# Altium schematic symbol library Capacitors.SchLib: 199 symbols
Pins are listed as number, name and electrical type; pins without a type are passive.

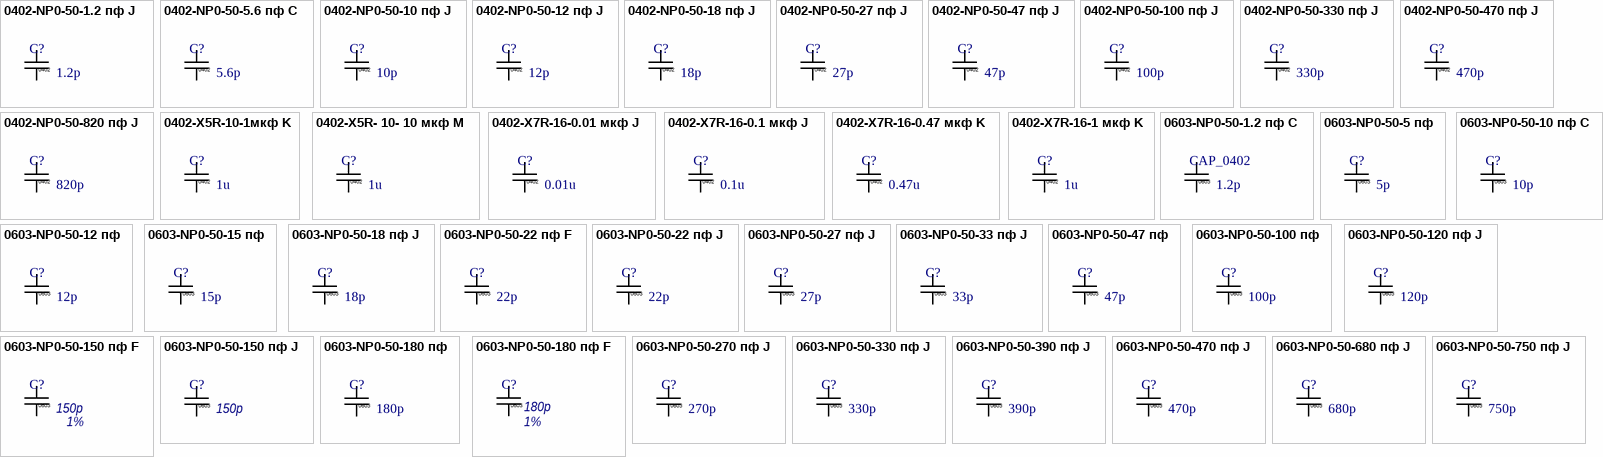
[diagram p0: symbols 0402-NP0-50-1.2 пф J to 0603-NP0-50-750 пф J]

## 0402-NP0-50-1.2 пф J
designator C?  Cap: 1.2p  Foot: 0402  (hidden comment: 0402-NP0-50-1.2 пф J)
Конденсатор Чип Керамический; Voltage: 50V
footprint CAP_0402 (Chip Capacitor, 2-Leads, Body 1,00x0,50mm, IPC Medium Density)
pins: 1, 2

## 0402-NP0-50-5.6 пф C
designator C?  Cap: 5.6p  Foot: 0402  (hidden comment: 0402-NP0-50-5.6 пф C)
Конденсатор Чип Керамический; Voltage: 50V
footprint CAP_0402 (Chip Capacitor, 2-Leads, Body 1,00x0,50mm, IPC Medium Density)
pins: 1, 2

## 0402-NP0-50-10 пф J
designator C?  Cap: 10p  Foot: 0402  (hidden comment: 0402-NP0-50-10 пф J)
Конденсатор Чип Керамический; Voltage: 50V
footprint CAP_0402 (Chip Capacitor, 2-Leads, Body 1,00x0,50mm, IPC Medium Density)
pins: 1, 2

## 0402-NP0-50-12 пф J
designator C?  Cap: 12p  Foot: 0402  (hidden comment: 0402-NP0-50-12 пф J)
Конденсатор Чип Керамический; Voltage: 50V
footprint CAP_0402 (Chip Capacitor, 2-Leads, Body 1,00x0,50mm, IPC Medium Density)
pins: 1, 2

## 0402-NP0-50-18 пф J
designator C?  Cap: 18p  Foot: 0402  (hidden comment: 0402-NP0-50-18 пф J)
Конденсатор Чип Керамический; Voltage: 50V
footprint CAP_0402 (Chip Capacitor, 2-Leads, Body 1,00x0,50mm, IPC Medium Density)
pins: 1, 2

## 0402-NP0-50-27 пф J
designator C?  Cap: 27p  Foot: 0402  (hidden comment: 0402-NP0-50-27 пф J)
Конденсатор Чип Керамический; Voltage: 50V
footprint CAP_0402 (Chip Capacitor, 2-Leads, Body 1,00x0,50mm, IPC Medium Density)
pins: 1, 2

## 0402-NP0-50-47 пф J
designator C?  Cap: 47p  Foot: 0402  (hidden comment: 0402-NP0-50-47 пф J)
Конденсатор Чип Керамический; Voltage: 50V
footprint CAP_0402 (Chip Capacitor, 2-Leads, Body 1,00x0,50mm, IPC Medium Density)
pins: 1, 2

## 0402-NP0-50-100 пф J
designator C?  Cap: 100p  Foot: 0402  (hidden comment: 0402-NP0-50-100 пф J)
Конденсатор Чип Керамический; Voltage: 50V
footprint CAP_0402 (Chip Capacitor, 2-Leads, Body 1,00x0,50mm, IPC Medium Density)
pins: 1, 2

## 0402-NP0-50-330 пф J
designator C?  Cap: 330p  Foot: 0402  (hidden comment: 0402-NP0-50-330 пф J)
Конденсатор Чип Керамический; Voltage: 50V
footprint CAP_0402 (Chip Capacitor, 2-Leads, Body 1,00x0,50mm, IPC Medium Density)
pins: 1, 2

## 0402-NP0-50-470 пф J
designator C?  Cap: 470p  Foot: 0402  (hidden comment: 0402-NP0-50-470 пф J)
Конденсатор Чип Керамический; Voltage: 50V
footprint CAP_0402 (Chip Capacitor, 2-Leads, Body 1,00x0,50mm, IPC Medium Density)
pins: 1, 2

## 0402-NP0-50-820 пф J
designator C?  Cap: 820p  Foot: 0402  (hidden comment: 0402-NP0-50-820 пф J)
Конденсатор Чип Керамический; Voltage: 50V
footprint CAP_0402 (Chip Capacitor, 2-Leads, Body 1,00x0,50mm, IPC Medium Density)
pins: 1, 2

## 0402-X5R-10-1мкф K
designator C?  Cap: 1u  Foot: 0402  (hidden comment: 0402-X5R-10-1мкф K)
Конденсатор Чип Керамический; Voltage: 10V
footprint CAP_0402 (Chip Capacitor, 2-Leads, Body 1,00x0,50mm, IPC Medium Density)
pins: 1, 2

## 0402-X5R- 10- 10 мкф M
designator C?  Cap: 1u  Foot: 0402  (hidden comment: 0402-X5R- 10- 10 мкф M)
Конденсатор Чип Керамический; Voltage: 10V
footprint CAP_0402 (Chip Capacitor, 2-Leads, Body 1,00x0,50mm, IPC Medium Density)
pins: 1, 2

## 0402-X7R-16-0.01 мкф J
designator C?  Cap: 0.01u  Foot: 0402  (hidden comment: 0402-X7R-16-0.01 мкф J)
Конденсатор Чип Керамический; Voltage: 16V
footprint CAP_0402 (Chip Capacitor, 2-Leads, Body 1,00x0,50mm, IPC Medium Density)
pins: 1, 2

## 0402-X7R-16-0.1 мкф J
designator C?  Cap: 0.1u  Foot: 0402  (hidden comment: 0402-X7R-16-0.1 мкф J)
Конденсатор Чип Керамический; Voltage: 16V
footprint CAP_0402 (Chip Capacitor, 2-Leads, Body 1,00x0,50mm, IPC Medium Density)
pins: 1, 2

## 0402-X7R-16-0.47 мкф K
designator C?  Cap: 0.47u  Foot: 0402  (hidden comment: 0402-X7R-16-0.47 мкф K)
Конденсатор Чип Керамический; Voltage: 16V
footprint CAP_0402 (Chip Capacitor, 2-Leads, Body 1,00x0,50mm, IPC Medium Density)
pins: 1, 2

## 0402-X7R-16-1 мкф K
designator C?  Cap: 1u  Foot: 0402  (hidden comment: 0402-X7R-16-1 мкф K)
Конденсатор Чип Керамический; Voltage: 16V
footprint CAP_0402 (Chip Capacitor, 2-Leads, Body 1,00x0,50mm, IPC Medium Density)
pins: 1, 2

## 0603-NP0-50-1.2 пф C
designator CAP_0402  Cap: 1.2p  Foot: 0603  (hidden comment: 0603-NP0-50-1.2 пф C)
Конденсатор Чип Керамический; Voltage: 50V; Tolerance: 0.5%
footprint CAP_0603 (Chip Capacitor, 2-Leads, Body 1,60x0,80mm, IPC Medium Density)
pins: 1, 2

## 0603-NP0-50-5 пф
designator C?  Cap: 5p  Foot: 0603  (hidden comment: 0603-NP0-50-5 пф)
Конденсатор Чип Керамический; Voltage: 50V
footprint CAP_0603 (Chip Capacitor, 2-Leads, Body 1,60x0,80mm, IPC Medium Density)
pins: 1, 2

## 0603-NP0-50-10 пф C
designator C?  Cap: 10p  Foot: 0603  (hidden comment: 0603-NP0-50-10 пф C)
Конденсатор Чип Керамический; Voltage: 50V; Tolerance: 0.5%
footprint CAP_0603 (Chip Capacitor, 2-Leads, Body 1,60x0,80mm, IPC Medium Density)
pins: 1, 2

## 0603-NP0-50-12 пф
designator C?  Cap: 12p  Foot: 0603  (hidden comment: 0603-NP0-50-12 пф)
Конденсатор Чип Керамический; Voltage: 50V
footprint CAP_0603 (Chip Capacitor, 2-Leads, Body 1,60x0,80mm, IPC Medium Density)
pins: 1, 2

## 0603-NP0-50-15 пф
designator C?  Cap: 15p  Foot: 0603  (hidden comment: 0603-NP0-50-15 пф)
Конденсатор Чип Керамический; Voltage: 50V
footprint CAP_0603 (Chip Capacitor, 2-Leads, Body 1,60x0,80mm, IPC Medium Density)
pins: 1, 2

## 0603-NP0-50-18 пф J
designator C?  Cap: 18p  Foot: 0603  (hidden comment: 0603-NP0-50-18 пф J)
Конденсатор Чип Керамический; Voltage: 50V
footprint CAP_0603 (Chip Capacitor, 2-Leads, Body 1,60x0,80mm, IPC Medium Density)
pins: 1, 2

## 0603-NP0-50-22 пф F
designator C?  Cap: 22p  Foot: 0603  (hidden comment: 0603-NP0-50-22 пф F)
Конденсатор Чип Керамический; Voltage: 50V; Tolerance: 1%
footprint CAP_0603 (Chip Capacitor, 2-Leads, Body 1,60x0,80mm, IPC Medium Density)
pins: 1, 2

## 0603-NP0-50-22 пф J
designator C?  Cap: 22p  Foot: 0603  (hidden comment: 0603-NP0-50-22 пф J)
Конденсатор Чип Керамический; Voltage: 50V
footprint CAP_0603 (Chip Capacitor, 2-Leads, Body 1,60x0,80mm, IPC Medium Density)
pins: 1, 2

## 0603-NP0-50-27 пф J
designator C?  Cap: 27p  Foot: 0603  (hidden comment: 0603-NP0-50-27 пф J)
Конденсатор Чип Керамический; Voltage: 50V
footprint CAP_0603 (Chip Capacitor, 2-Leads, Body 1,60x0,80mm, IPC Medium Density)
pins: 1, 2

## 0603-NP0-50-33 пф J
designator C?  Cap: 33p  Foot: 0603  (hidden comment: 0603-NP0-50-33 пф J)
Конденсатор Чип Керамический; Voltage: 50V
footprint CAP_0603 (Chip Capacitor, 2-Leads, Body 1,60x0,80mm, IPC Medium Density)
pins: 1, 2

## 0603-NP0-50-47 пф
designator C?  Cap: 47p  Foot: 0603  (hidden comment: 0603-NP0-50-47 пф)
Конденсатор Чип Керамический; Voltage: 50V
footprint CAP_0603 (Chip Capacitor, 2-Leads, Body 1,60x0,80mm, IPC Medium Density)
pins: 1, 2

## 0603-NP0-50-100 пф
designator C?  Cap: 100p  Foot: 0603  (hidden comment: 0603-NP0-50-100 пф)
Конденсатор Чип Керамический; Voltage: 50V; Price, $: 0.1
footprint CAP_0603 (Chip Capacitor, 2-Leads, Body 1,60x0,80mm, IPC Medium Density)
pins: 1, 2

## 0603-NP0-50-120 пф J
designator C?  Cap: 120p  Foot: 0603  (hidden comment: 0603-NP0-50-120 пф J)
Конденсатор Чип Керамический; Voltage: 50V
footprint CAP_0603 (Chip Capacitor, 2-Leads, Body 1,60x0,80mm, IPC Medium Density)
pins: 1, 2

## 0603-NP0-50-150 пф F
designator C?, comment Cap: 150p  Foot: 0603  Tolerance: 1%  (hidden comment: 0603-NP0-50-150пф F)
Конденсатор Чип Керамический; Voltage: 50V
footprint CAP_0603 (Chip Capacitor, 2-Leads, Body 1,60x0,80mm, IPC Medium Density)
pins: 1, 2

## 0603-NP0-50-150 пф J
designator C?, comment Cap: 150p  Foot: 0603  (hidden comment: 0603-NP0-50-150пф J)
Конденсатор Чип Керамический; Voltage: 50V; Tolerance: 5%
footprint CAP_0603 (Chip Capacitor, 2-Leads, Body 1,60x0,80mm, IPC Medium Density)
pins: 1, 2

## 0603-NP0-50-180 пф
designator C?, comment Cap: 180p  Foot: 0603  (hidden comment: 0603-NP0-50-180пф)
Конденсатор Чип Керамический; Voltage: 50V; Price, $: 0.1
footprint CAP_0603 (Chip Capacitor, 2-Leads, Body 1,60x0,80mm, IPC Medium Density)
pins: 1, 2

## 0603-NP0-50-180 пф F
designator C?, comment Cap: 180p  Foot: 0603  Tolerance: 1%  (hidden comment: 0603-NP0-50-180пф F)
Конденсатор Чип Керамический; Voltage: 50V
footprint CAP_0603 (Chip Capacitor, 2-Leads, Body 1,60x0,80mm, IPC Medium Density)
pins: 1, 2

## 0603-NP0-50-270 пф J
designator C?  Cap: 270p  Foot: 0603  (hidden comment: 0603-NP0-50-270 пф J)
Конденсатор Чип Керамический; Voltage: 50V; Price, $: 0.1
footprint CAP_0603 (Chip Capacitor, 2-Leads, Body 1,60x0,80mm, IPC Medium Density)
pins: 1, 2

## 0603-NP0-50-330 пф J
designator C?  Cap: 330p  Foot: 0603  (hidden comment: 0603-NP0-50-330 пф J)
Конденсатор Чип Керамический; Voltage: 50V; Price, $: 0.1
footprint CAP_0603 (Chip Capacitor, 2-Leads, Body 1,60x0,80mm, IPC Medium Density)
pins: 1, 2

## 0603-NP0-50-390 пф J
designator C?  Cap: 390p  Foot: 0603  (hidden comment: 0603-NP0-50-390 пф J)
Конденсатор Чип Керамический; Voltage: 50V
footprint CAP_0603 (Chip Capacitor, 2-Leads, Body 1,60x0,80mm, IPC Medium Density)
pins: 1, 2

## 0603-NP0-50-470 пф J
designator C?  Cap: 470p  Foot: 0603  (hidden comment: 0603-NP0-50-470 пф J)
Конденсатор Чип Керамический; Voltage: 50V
footprint CAP_0603 (Chip Capacitor, 2-Leads, Body 1,60x0,80mm, IPC Medium Density)
pins: 1, 2

## 0603-NP0-50-680 пф J
designator C?  Cap: 680p  Foot: 0603  (hidden comment: 0603-NP0-50-680 пф J)
Конденсатор Чип Керамический; Voltage: 50V
footprint CAP_0603 (Chip Capacitor, 2-Leads, Body 1,60x0,80mm, IPC Medium Density)
pins: 1, 2

## 0603-NP0-50-750 пф J
designator C?  Cap: 750p  Foot: 0603  (hidden comment: 0603-NP0-50-750 пф J)
Конденсатор Чип Керамический; Voltage: 50V
footprint CAP_0603 (Chip Capacitor, 2-Leads, Body 1,60x0,80mm, IPC Medium Density)
pins: 1, 2

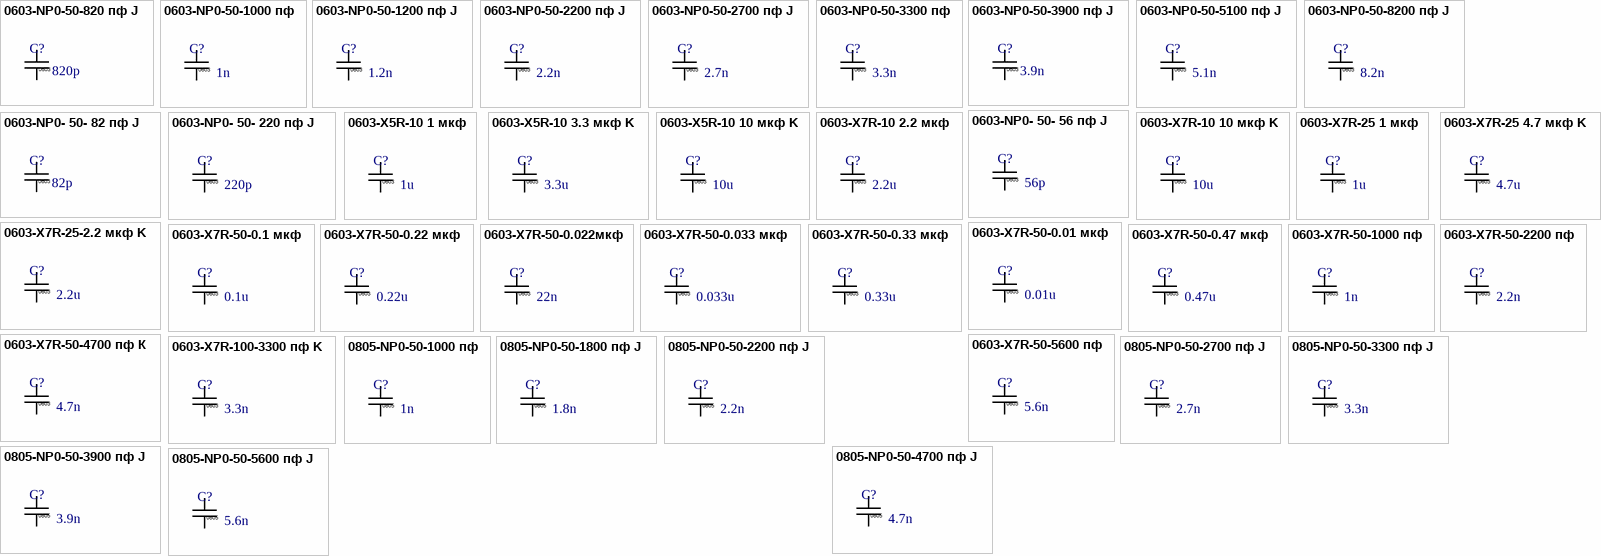
[diagram p1: symbols 0603-NP0-50-820 пф J to 0805-NP0-50-5600 пф J]

## 0603-NP0-50-820 пф J
designator C?  Cap: 820p  Foot: 0603  (hidden comment: 0603-NP0-50-820 пф J)
Конденсатор Чип Керамический; Voltage: 50V
footprint CAP_0603 (Chip Capacitor, 2-Leads, Body 1,60x0,80mm, IPC Medium Density)
pins: 1, 2

## 0603-NP0-50-1000 пф
designator C?  Cap: 1n  Foot: 0603  (hidden comment: 0603-NP0-50-1000 пф)
Конденсатор Чип Керамический; Voltage: 50V; Price, $: 0.1
footprint CAP_0603 (Chip Capacitor, 2-Leads, Body 1,60x0,80mm, IPC Medium Density)
pins: 1, 2

## 0603-NP0-50-1200 пф J
designator C?  Cap: 1.2n  Foot: 0603  (hidden comment: 0603-NP0-50-1200 пф J)
Конденсатор Чип Керамический; Voltage: 50V
footprint CAP_0603 (Chip Capacitor, 2-Leads, Body 1,60x0,80mm, IPC Medium Density)
pins: 1, 2

## 0603-NP0-50-2200 пф J
designator C?  Cap: 2.2n  Foot: 0603  (hidden comment: 0603-NP0-50-2200 пф J)
Конденсатор Чип Керамический; Voltage: 50V
footprint CAP_0603 (Chip Capacitor, 2-Leads, Body 1,60x0,80mm, IPC Medium Density)
pins: 1, 2

## 0603-NP0-50-2700 пф J
designator C?  Cap: 2.7n  Foot: 0603  (hidden comment: 0603-NP0-50-2700 пф J)
Конденсатор Чип Керамический; Voltage: 50V
footprint CAP_0603 (Chip Capacitor, 2-Leads, Body 1,60x0,80mm, IPC Medium Density)
pins: 1, 2

## 0603-NP0-50-3300 пф
designator C?  Cap: 3.3n  Foot: 0603  (hidden comment: 0603-NP0-50-3300 пф)
Конденсатор Чип Керамический; Voltage: 50V
footprint CAP_0603 (Chip Capacitor, 2-Leads, Body 1,60x0,80mm, IPC Medium Density)
pins: 1, 2

## 0603-NP0-50-3900 пф J
designator C?  Cap: 3.9n  Foot: 0603  (hidden comment: 0603-NP0-50-3900 пф J)
Конденсатор Чип Керамический; Voltage: 50V
footprint CAP_0603 (Chip Capacitor, 2-Leads, Body 1,60x0,80mm, IPC Medium Density)
pins: 1, 2

## 0603-NP0-50-5100 пф J
designator C?  Cap: 5.1n  Foot: 0603  (hidden comment: 0603-NP0-50-5100 пф J)
Конденсатор Чип Керамический; Voltage: 50V
footprint CAP_0603 (Chip Capacitor, 2-Leads, Body 1,60x0,80mm, IPC Medium Density)
pins: 1, 2

## 0603-NP0-50-8200 пф J
designator C?  Cap: 8.2n  Foot: 0603  (hidden comment: 0603-NP0-50-8200 пф J)
Конденсатор Чип Керамический; Voltage: 50V
footprint CAP_0603 (Chip Capacitor, 2-Leads, Body 1,60x0,80mm, IPC Medium Density)
pins: 1, 2

## 0603-NP0- 50- 56 пф J
designator C?  Cap: 56p  Foot: 0603  (hidden comment: 0603-NP0- 50- 56 пф J)
Конденсатор Чип Керамический; Voltage: 50V
footprint CAP_0603 (Chip Capacitor, 2-Leads, Body 1,60x0,80mm, IPC Medium Density)
pins: 1, 2

## 0603-NP0- 50- 82 пф J
designator C?  Cap: 82p  Foot: 0603  (hidden comment: 0603-NP0- 50- 82 пф J)
Конденсатор Чип Керамический; Voltage: 50V
footprint CAP_0603 (Chip Capacitor, 2-Leads, Body 1,60x0,80mm, IPC Medium Density)
pins: 1, 2

## 0603-NP0- 50- 220 пф J
designator C?  Cap: 220p  Foot: 0603  (hidden comment: 0603-NP0- 50- 220 пф J)
Конденсатор Чип Керамический; Voltage: 50V
footprint CAP_0603 (Chip Capacitor, 2-Leads, Body 1,60x0,80mm, IPC Medium Density)
pins: 1, 2

## 0603-X5R-10 1 мкф
designator C?  Cap: 1u  Foot: 0603  (hidden comment: 0603-X5R-10 1 мкф)
Конденсатор Чип Керамический; Voltage: 10V
footprint CAP_0603 (Chip Capacitor, 2-Leads, Body 1,60x0,80mm, IPC Medium Density)
pins: 1, 2

## 0603-X5R-10 3.3 мкф K
designator C?  Cap: 3.3u  Foot: 0603  (hidden comment: 0603-X5R-10 3.3 мкф K)
Конденсатор Чип Керамический; Voltage: 25V
footprint CAP_0603 (Chip Capacitor, 2-Leads, Body 1,60x0,80mm, IPC Medium Density)
pins: 1, 2

## 0603-X5R-10 10 мкф K
designator C?  Cap: 10u  Foot: 0603  (hidden comment: 0603-X5R-10 10 мкф K)
Конденсатор Чип Керамический; Voltage: 10V; Price, $: 0.1
footprint CAP_0603 (Chip Capacitor, 2-Leads, Body 1,60x0,80mm, IPC Medium Density)
pins: 1, 2

## 0603-X7R-10 2.2 мкф
designator C?  Cap: 2.2u  Foot: 0603  (hidden comment: 0603-X7R-10 2.2 мкф)
Конденсатор Чип Керамический; Voltage: 10V
footprint CAP_0603 (Chip Capacitor, 2-Leads, Body 1,60x0,80mm, IPC Medium Density)
pins: 1, 2

## 0603-X7R-10 10 мкф K
designator C?  Cap: 10u  Foot: 0603  (hidden comment: 0603-X7R-10 10 мкф K)
Конденсатор Чип Керамический; Voltage: 10V
footprint CAP_0603 (Chip Capacitor, 2-Leads, Body 1,60x0,80mm, IPC Medium Density)
pins: 1, 2

## 0603-X7R-25 1 мкф
designator C?  Cap: 1u  Foot: 0603  (hidden comment: 0603-X7R-25 1 мкф)
Конденсатор Чип Керамический; Voltage: 25V
footprint CAP_0603 (Chip Capacitor, 2-Leads, Body 1,60x0,80mm, IPC Medium Density)
pins: 1, 2

## 0603-X7R-25 4.7 мкф K
designator C?  Cap: 4.7u  Foot: 0603  (hidden comment: 0603-X7R-25 4.7 мкф K)
Конденсатор Чип Керамический; Voltage: 25V
footprint CAP_0603 (Chip Capacitor, 2-Leads, Body 1,60x0,80mm, IPC Medium Density)
pins: 1, 2

## 0603-X7R-25-2.2 мкф K
designator C?  Cap: 2.2u  Foot: 0603  (hidden comment: 0603-X7R-25-2.2 мкф K)
Конденсатор Чип Керамический; Voltage: 25V; Price, $: 0.18
footprint CAP_0603 (Chip Capacitor, 2-Leads, Body 1,60x0,80mm, IPC Medium Density)
pins: 1, 2

## 0603-X7R-50-0.01 мкф
designator C?  Cap: 0.01u  Foot: 0603  (hidden comment: 0603-X7R-50-0.01 мкф)
Конденсатор Чип Керамический; Voltage: 50V
footprint CAP_0603 (Chip Capacitor, 2-Leads, Body 1,60x0,80mm, IPC Medium Density)
pins: 1, 2

## 0603-X7R-50-0.1 мкф
designator C?  Cap: 0.1u  Foot: 0603  (hidden comment: 0603-X7R-50-0.1 мкф)
Конденсатор Чип Керамический; Voltage: 50V; Price, $: 0.1
footprint CAP_0603 (Chip Capacitor, 2-Leads, Body 1,60x0,80mm, IPC Medium Density)
pins: 1, 2

## 0603-X7R-50-0.22 мкф
designator C?  Cap: 0.22u  Foot: 0603  (hidden comment: 0603-X7R-50-0.22 мкф)
Конденсатор Чип Керамический; Voltage: 50V
footprint CAP_0603 (Chip Capacitor, 2-Leads, Body 1,60x0,80mm, IPC Medium Density)
pins: 1, 2

## 0603-X7R-50-0.022мкф
designator C?  Cap: 22n  Foot: 0603  (hidden comment: 0603-X7R-50-0.022мкф)
Конденсатор Чип Керамический; Voltage: 50V
footprint CAP_0603 (Chip Capacitor, 2-Leads, Body 1,60x0,80mm, IPC Medium Density)
pins: 1, 2

## 0603-X7R-50-0.033 мкф
designator C?  Cap: 0.033u  Foot: 0603  (hidden comment: 0603-X7R-50-0.033 мкф)
Конденсатор Чип Керамический; Voltage: 50V
footprint CAP_0603 (Chip Capacitor, 2-Leads, Body 1,60x0,80mm, IPC Medium Density)
pins: 1, 2

## 0603-X7R-50-0.33 мкф
designator C?  Cap: 0.33u  Foot: 0603  (hidden comment: 0603-X7R-50-0.33 мкф)
Конденсатор Чип Керамический; Voltage: 50V
footprint CAP_0603 (Chip Capacitor, 2-Leads, Body 1,60x0,80mm, IPC Medium Density)
pins: 1, 2

## 0603-X7R-50-0.47 мкф
designator C?  Cap: 0.47u  Foot: 0603  (hidden comment: 0603-X7R-50-0.47 мкф)
Конденсатор Чип Керамический; Voltage: 50V
footprint CAP_0603 (Chip Capacitor, 2-Leads, Body 1,60x0,80mm, IPC Medium Density)
pins: 1, 2

## 0603-X7R-50-1000 пф
designator C?  Cap: 1n  Foot: 0603  (hidden comment: 0603-X7R-50-1000 пф)
Конденсатор Чип Керамический; Voltage: 50V
footprint CAP_0603 (Chip Capacitor, 2-Leads, Body 1,60x0,80mm, IPC Medium Density)
pins: 1, 2

## 0603-X7R-50-2200 пф
designator C?  Cap: 2.2n  Foot: 0603  (hidden comment: 0603-X7R-50-2200 пф)
Конденсатор Чип Керамический; Voltage: 50V
footprint CAP_0603 (Chip Capacitor, 2-Leads, Body 1,60x0,80mm, IPC Medium Density)
pins: 1, 2

## 0603-X7R-50-4700 пф К
designator C?  Cap: 4.7n  Foot: 0603  (hidden comment: 0603-X7R-50-4700 пф К)
Конденсатор Чип Керамический; Voltage: 50V
footprint CAP_0603 (Chip Capacitor, 2-Leads, Body 1,60x0,80mm, IPC Medium Density)
pins: 1, 2

## 0603-X7R-50-5600 пф
designator C?, comment Cap: 5.6n  Foot: 0603  (hidden comment: 0603-X7R-50-5600 пф K)
Конденсатор Чип Керамический; Voltage: 50V
footprint CAP_0603 (Chip Capacitor, 2-Leads, Body 1,60x0,80mm, IPC Medium Density)
pins: 1, 2

## 0603-X7R-100-3300 пф K
designator C?  Cap: 3.3n  Foot: 0603  (hidden comment: 0603-X7R-100-3300 пф K)
Конденсатор Чип Керамический; Voltage: 100V
footprint CAP_0603 (Chip Capacitor, 2-Leads, Body 1,60x0,80mm, IPC Medium Density)
pins: 1, 2

## 0805-NP0-50-1000 пф
designator C?  Cap: 1n  Foot: 0805  (hidden comment: 0805-NP0-50-1000 пф)
Конденсатор Чип Керамический; Voltage: 50V
footprint CAP_0805 (Chip Capacitor, 2-Leads, Body 2,00x1,25mm, IPC Medium Density)
pins: 1, 2

## 0805-NP0-50-1800 пф J
designator C?  Cap: 1.8n  Foot: 0805  (hidden comment: 0805-NP0-50-1800 пф J)
Конденсатор Чип Керамический; Voltage: 50V
footprint CAP_0805 (Chip Capacitor, 2-Leads, Body 2,00x1,25mm, IPC Medium Density)
pins: 1, 2

## 0805-NP0-50-2200 пф J
designator C?  Cap: 2.2n  Foot: 0805  (hidden comment: 0805-NP0-50-2200 пф J)
Конденсатор Чип Керамический; Voltage: 50V
footprint CAP_0805 (Chip Capacitor, 2-Leads, Body 2,00x1,25mm, IPC Medium Density)
pins: 1, 2

## 0805-NP0-50-2700 пф J
designator C?  Cap: 2.7n  Foot: 0805  (hidden comment: 0805-NP0-50-2700 пф J)
Конденсатор Чип Керамический; Voltage: 50V
footprint CAP_0805 (Chip Capacitor, 2-Leads, Body 2,00x1,25mm, IPC Medium Density)
pins: 1, 2

## 0805-NP0-50-3300 пф J
designator C?  Cap: 3.3n  Foot: 0805  (hidden comment: 0805-NP0-50-3300 пф J)
Конденсатор Чип Керамический; Voltage: 50V
footprint CAP_0805 (Chip Capacitor, 2-Leads, Body 2,00x1,25mm, IPC Medium Density)
pins: 1, 2

## 0805-NP0-50-3900 пф J
designator C?  Cap: 3.9n  Foot: 0805  (hidden comment: 0805-NP0-50-3900 пф J)
Конденсатор Чип Керамический; Voltage: 50V
footprint CAP_0805 (Chip Capacitor, 2-Leads, Body 2,00x1,25mm, IPC Medium Density)
pins: 1, 2

## 0805-NP0-50-4700 пф J
designator C?  Cap: 4.7n  Foot: 0805  (hidden comment: 0805-NP0-50-4700 пф J)
Конденсатор Чип Керамический; Voltage: 50V
footprint CAP_0805 (Chip Capacitor, 2-Leads, Body 2,00x1,25mm, IPC Medium Density)
pins: 1, 2

## 0805-NP0-50-5600 пф J
designator C?  Cap: 5.6n  Foot: 0805  (hidden comment: 0805-NP0-50-5600 пф J)
Конденсатор Чип Керамический; Voltage: 50V
footprint CAP_0805 (Chip Capacitor, 2-Leads, Body 2,00x1,25mm, IPC Medium Density)
pins: 1, 2

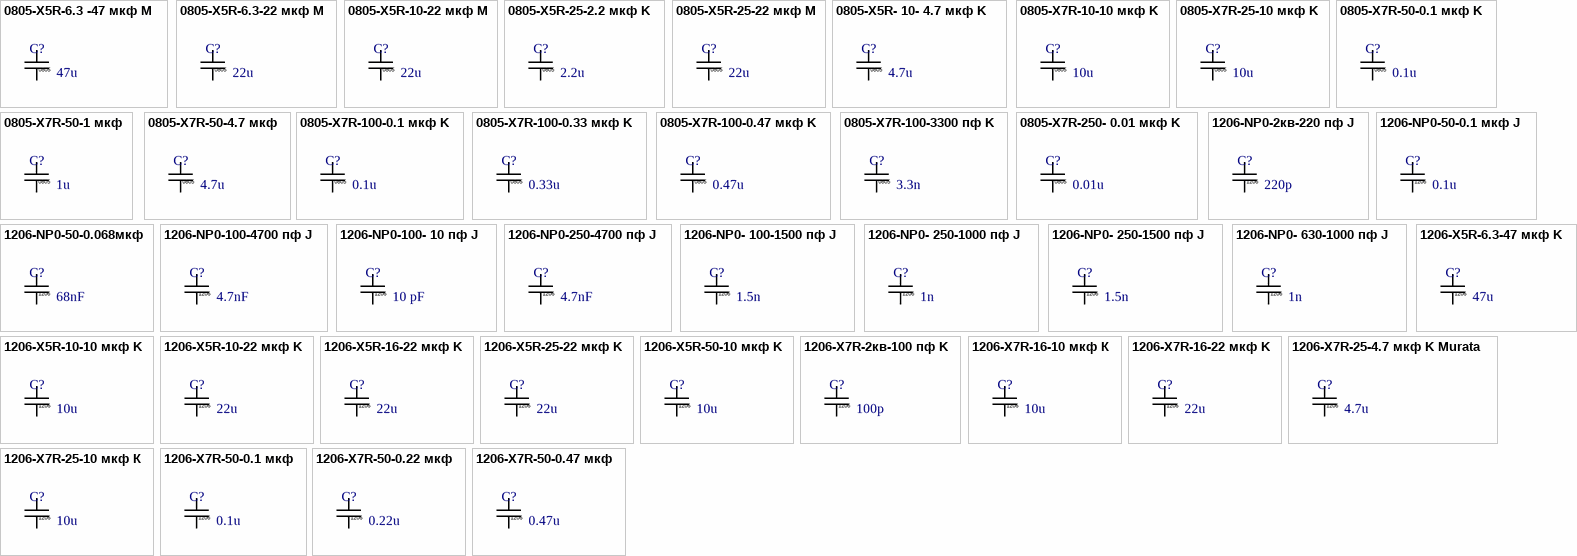
[diagram p2: symbols 0805-X5R-6.3 -47 мкф M to 1206-X7R-50-0.47 мкф]

## 0805-X5R-6.3 -47 мкф M
designator C?  Cap: 47u  Foot: 0805  (hidden comment: 0805-X5R-6.3 -47 мкф M)
Конденсатор Чип Керамический; Voltage: 6.3V
footprint CAP_0805 (Chip Capacitor, 2-Leads, Body 2,00x1,25mm, IPC Medium Density)
pins: 1, 2

## 0805-X5R-6.3-22 мкф M
designator C?  Cap: 22u  Foot: 0805  (hidden comment: 0805-X5R-6.3-22 мкф M)
Конденсатор Чип Керамический; Voltage: 6.3V
footprint CAP_0805 (Chip Capacitor, 2-Leads, Body 2,00x1,25mm, IPC Medium Density)
pins: 1, 2

## 0805-X5R-10-22 мкф M
designator C?  Cap: 22u  Foot: 0805  (hidden comment: 0805-X5R-10-22 мкф M)
Конденсатор Чип Керамический; Voltage: 10V
footprint CAP_0805 (Chip Capacitor, 2-Leads, Body 2,00x1,25mm, IPC Medium Density)
pins: 1, 2

## 0805-X5R-25-2.2 мкф K
designator C?  Cap: 2.2u  Foot: 0805  (hidden comment: 0805-X5R-25-2.2 мкф K)
Конденсатор Чип Керамический; Voltage: 25V
footprint CAP_0805 (Chip Capacitor, 2-Leads, Body 2,00x1,25mm, IPC Medium Density)
pins: 1, 2

## 0805-X5R-25-22 мкф M
designator C?  Cap: 22u  Foot: 0805  (hidden comment: 0805-X5R-25-22 мкф M)
Конденсатор Чип Керамический; Voltage: 25V
footprint CAP_0805 (Chip Capacitor, 2-Leads, Body 2,00x1,25mm, IPC Medium Density)
pins: 1, 2

## 0805-X5R- 10- 4.7 мкф K
designator C?  Cap: 4.7u  Foot: 0805  (hidden comment: 0805-X5R- 10- 4.7 мкф K)
Конденсатор Чип Керамический; Voltage: 10V
footprint CAP_0805 (Chip Capacitor, 2-Leads, Body 2,00x1,25mm, IPC Medium Density)
pins: 1, 2

## 0805-X7R-10-10 мкф K
designator C?  Cap: 10u  Foot: 0805  (hidden comment: 0805-X7R-10-10 мкф K)
Конденсатор Чип Керамический; Voltage: 10V
footprint CAP_0805 (Chip Capacitor, 2-Leads, Body 2,00x1,25mm, IPC Medium Density)
pins: 1, 2

## 0805-X7R-25-10 мкф K
designator C?  Cap: 10u  Foot: 0805  (hidden comment: 0805-X7R-25-10 мкф K)
Конденсатор Чип Керамический; Voltage: 25V; Price, $: 0.25
footprint CAP_0805 (Chip Capacitor, 2-Leads, Body 2,00x1,25mm, IPC Medium Density)
pins: 1, 2

## 0805-X7R-50-0.1 мкф K
designator C?, comment Cap: 0.1u  Foot: 0805  (hidden comment: 0805-X7R-50-0.1 мкф K Hitano)
Конденсатор Чип Керамический; Voltage: 50V
footprint CAP_0805 (Chip Capacitor, 2-Leads, Body 2,00x1,25mm, IPC Medium Density)
pins: 1, 2

## 0805-X7R-50-1 мкф
designator C?  Cap: 1u  Foot: 0805  (hidden comment: 0805-X7R-50-1 мкф)
Конденсатор Чип Керамический; Voltage: 50V
footprint CAP_0805 (Chip Capacitor, 2-Leads, Body 2,00x1,25mm, IPC Medium Density)
pins: 1, 2

## 0805-X7R-50-4.7 мкф
designator C?, comment Cap: 4.7u  Foot: 0805  (hidden comment: 0805-X7R-50-4.7 мкф K)
Конденсатор Чип Керамический; Voltage: 50V; Price, $: 0.2
footprint CAP_0805 (Chip Capacitor, 2-Leads, Body 2,00x1,25mm, IPC Medium Density)
pins: 1, 2

## 0805-X7R-100-0.1 мкф K
designator C?, comment Cap: 0.1u  Foot: 0805  (hidden comment: 0805-X7R-100-0.1 мкф K Hitano)
Конденсатор Чип Керамический; Voltage: 100V
footprint CAP_0805 (Chip Capacitor, 2-Leads, Body 2,00x1,25mm, IPC Medium Density)
pins: 1, 2

## 0805-X7R-100-0.33 мкф K
designator C?  Cap: 0.33u  Foot: 0805  (hidden comment: 0805-X7R-100-0.33 мкф K)
Конденсатор Чип Керамический; Voltage: 100V
footprint CAP_0805 (Chip Capacitor, 2-Leads, Body 2,00x1,25mm, IPC Medium Density)
pins: 1, 2

## 0805-X7R-100-0.47 мкф K
designator C?  Cap: 0.47u  Foot: 0805  (hidden comment: 0805-X7R-100-0.47 мкф K)
Конденсатор Чип Керамический; Voltage: 100V
footprint CAP_0805 (Chip Capacitor, 2-Leads, Body 2,00x1,25mm, IPC Medium Density)
pins: 1, 2

## 0805-X7R-100-3300 пф K
designator C?  Cap: 3.3n  Foot: 0805  (hidden comment: 0805-X7R-100-3300 пф K)
Конденсатор Чип Керамический; Voltage: 100V
footprint CAP_0805 (Chip Capacitor, 2-Leads, Body 2,00x1,25mm, IPC Medium Density)
pins: 1, 2

## 0805-X7R-250- 0.01 мкф K
designator C?  Cap: 0.01u  Foot: 0805  (hidden comment: 0805-X7R-250- 0.01 мкф K)
Конденсатор Чип Керамический; Voltage: 250V
footprint CAP_0805 (Chip Capacitor, 2-Leads, Body 2,00x1,25mm, IPC Medium Density)
pins: 1, 2

## 1206-NP0-2кв-220 пф J
designator C?  Cap: 220p  Foot: 1206  (hidden comment: 1206-NP0-2кв-220 пф J)
Конденсатор Чип Керамический; Voltage: 2kV
footprint CAP_1206 (Chip Capacitor, 2-Leads, Body 3,20x1,60mm, IPC Medium Density)
pins: 1, 2

## 1206-NP0-50-0.1 мкф J
designator C?  Cap: 0.1u  Foot: 1206  (hidden comment: 1206-NP0-50-0.1 мкф J)
Конденсатор Чип Керамический; Voltage: 50V; Price, $: 0.15
footprint CAP_1206 (Chip Capacitor, 2-Leads, Body 3,20x1,60mm, IPC Medium Density)
pins: 1, 2

## 1206-NP0-50-0.068мкф
designator C?, comment Cap: 68nF  Foot: 1206  (hidden comment: 1206-NP0-50-0.068мкф(Симметрон))
Конденсатор Чип Керамический; Voltage: 50V
footprint CAP_1206 (Chip Capacitor, 2-Leads, Body 3,20x1,60mm, IPC Medium Density)
pins: 1, 2

## 1206-NP0-100-4700 пф J
designator C?  Cap: 4.7nF  Foot: 1206  (hidden comment: 1206-NP0-100-4700 пф J)
Конденсатор Чип Керамический; Voltage: 100V
footprint CAP_1206 (Chip Capacitor, 2-Leads, Body 3,20x1,60mm, IPC Medium Density)
pins: 1, 2

## 1206-NP0-100- 10 пф J
designator C?  Cap: 10 pF  Foot: 1206  (hidden comment: 1206-NP0-100- 10 пф J)
Конденсатор Чип Керамический; Voltage: 100V
footprint CAP_1206 (Chip Capacitor, 2-Leads, Body 3,20x1,60mm, IPC Medium Density)
pins: 1, 2

## 1206-NP0-250-4700 пф J
designator C?  Cap: 4.7nF  Foot: 1206  (hidden comment: 1206-NP0-250-4700 пф J)
Конденсатор Чип Керамический; Voltage: 250V
footprint CAP_1206 (Chip Capacitor, 2-Leads, Body 3,20x1,60mm, IPC Medium Density)
pins: 1, 2

## 1206-NP0- 100-1500 пф J
designator C?  Cap: 1.5n  Foot: 1206  (hidden comment: 1206-NP0- 100-1500 пф J)
Конденсатор Чип Керамический; Voltage: 100V
footprint CAP_1206 (Chip Capacitor, 2-Leads, Body 3,20x1,60mm, IPC Medium Density)
pins: 1, 2

## 1206-NP0- 250-1000 пф J
designator C?  Cap: 1n  Foot: 1206  (hidden comment: 1206-NP0- 250-1000 пф J)
Конденсатор Чип Керамический; Voltage: 250V
footprint CAP_1206 (Chip Capacitor, 2-Leads, Body 3,20x1,60mm, IPC Medium Density)
pins: 1, 2

## 1206-NP0- 250-1500 пф J
designator C?  Cap: 1.5n  Foot: 1206  (hidden comment: 1206-NP0- 250-1500 пф J)
Конденсатор Чип Керамический; Voltage: 250V
footprint CAP_1206 (Chip Capacitor, 2-Leads, Body 3,20x1,60mm, IPC Medium Density)
pins: 1, 2

## 1206-NP0- 630-1000 пф J
designator C?  Cap: 1n  Foot: 1206  (hidden comment: 1206-NP0- 630-1000 пф J)
Конденсатор Чип Керамический; Voltage: 630V
footprint CAP_1206 (Chip Capacitor, 2-Leads, Body 3,20x1,60mm, IPC Medium Density)
pins: 1, 2

## 1206-X5R-6.3-47 мкф K
designator C?  Cap: 47u  Foot: 1206  (hidden comment: 1206-X5R-6.3-47 мкф K)
Конденсатор Чип Керамический; Voltage: 6.3V
footprint CAP_1206 (Chip Capacitor, 2-Leads, Body 3,20x1,60mm, IPC Medium Density)
pins: 1, 2

## 1206-X5R-10-10 мкф K
designator C?, comment Cap: 10u  Foot: 1206  (hidden comment: 1206-X5R-10-10 мкф K Hitano)
Конденсатор Чип Керамический; Voltage: 10V; Price: 0.15
footprint CAP_1206 (Chip Capacitor, 2-Leads, Body 3,20x1,60mm, IPC Medium Density)
pins: 1, 2

## 1206-X5R-10-22 мкф K
designator C?, comment Cap: 22u  Foot: 1206  (hidden comment: 1206-X5R-10-22 мкф K Hitano)
Конденсатор Чип Керамический; Voltage: 10V
footprint CAP_1206 (Chip Capacitor, 2-Leads, Body 3,20x1,60mm, IPC Medium Density)
pins: 1, 2

## 1206-X5R-16-22 мкф K
designator C?  Cap: 22u  Foot: 1206  (hidden comment: 1206-X5R-16-22 мкф K)
Конденсатор Чип Керамический; Voltage: 16V
footprint CAP_1206 (Chip Capacitor, 2-Leads, Body 3,20x1,60mm, IPC Medium Density)
pins: 1, 2

## 1206-X5R-25-22 мкф K
designator C?  Cap: 22u  Foot: 1206  (hidden comment: 1206-X5R-25-22 мкф K)
Конденсатор Чип Керамический; Voltage: 25V
footprint CAP_1206 (Chip Capacitor, 2-Leads, Body 3,20x1,60mm, IPC Medium Density)
pins: 1, 2

## 1206-X5R-50-10 мкф K
designator C?  Cap: 10u  Foot: 1206  (hidden comment: 1206-X5R-50-10 мкф K)
Конденсатор Чип Керамический; Voltage: 50V; Price, $: 0.15
footprint CAP_1206 (Chip Capacitor, 2-Leads, Body 3,20x1,60mm, IPC Medium Density)
pins: 1, 2

## 1206-X7R-2кв-100 пф K
designator C?  Cap: 100p  Foot: 1206  (hidden comment: 1206-X7R-2кв-100 пф K)
Конденсатор Чип Керамический; Voltage: 2kV
footprint CAP_1206 (Chip Capacitor, 2-Leads, Body 3,20x1,60mm, IPC Medium Density)
pins: 1, 2

## 1206-X7R-16-10 мкф К
designator C?  Cap: 10u  Foot: 1206  (hidden comment: 1206-X7R-16-10 мкф К)
Конденсатор Чип Керамический; Voltage: 16V
footprint CAP_1206 (Chip Capacitor, 2-Leads, Body 3,20x1,60mm, IPC Medium Density)
pins: 1, 2

## 1206-X7R-16-22 мкф K
designator C?  Cap: 22u  Foot: 1206  (hidden comment: 1206-X7R-16-22 мкф K)
Конденсатор Чип Керамический; Voltage: 16V
footprint CAP_1206 (Chip Capacitor, 2-Leads, Body 3,20x1,60mm, IPC Medium Density)
pins: 1, 2

## 1206-X7R-25-4.7 мкф K Murata
designator C?  Cap: 4.7u  Foot: 1206  (hidden comment: 1206-X7R-25-4.7 мкф K Murata)
Конденсатор Чип Керамический; Voltage: 25V
footprint CAP_1206 (Chip Capacitor, 2-Leads, Body 3,20x1,60mm, IPC Medium Density)
pins: 1, 2

## 1206-X7R-25-10 мкф К
designator C?  Cap: 10u  Foot: 1206  (hidden comment: 1206-X7R-25-10 мкф К)
Конденсатор Чип Керамический; Voltage: 25V
footprint CAP_1206 (Chip Capacitor, 2-Leads, Body 3,20x1,60mm, IPC Medium Density)
pins: 1, 2

## 1206-X7R-50-0.1 мкф
designator C?  Cap: 0.1u  Foot: 1206  (hidden comment: 1206-X7R-50-0.1 мкф)
Конденсатор Чип Керамический; Voltage: 50V
footprint CAP_1206 (Chip Capacitor, 2-Leads, Body 3,20x1,60mm, IPC Medium Density)
pins: 1, 2

## 1206-X7R-50-0.22 мкф
designator C?  Cap: 0.22u  Foot: 1206  (hidden comment: 1206-X7R-50-0.22 мкф)
Конденсатор Чип Керамический; Voltage: 50V
footprint CAP_1206 (Chip Capacitor, 2-Leads, Body 3,20x1,60mm, IPC Medium Density)
pins: 1, 2

## 1206-X7R-50-0.47 мкф
designator C?  Cap: 0.47u  Foot: 1206  (hidden comment: 1206-X7R-50-0.47 мкф)
Конденсатор Чип Керамический; Voltage: 50V
footprint CAP_1206 (Chip Capacitor, 2-Leads, Body 3,20x1,60mm, IPC Medium Density)
pins: 1, 2

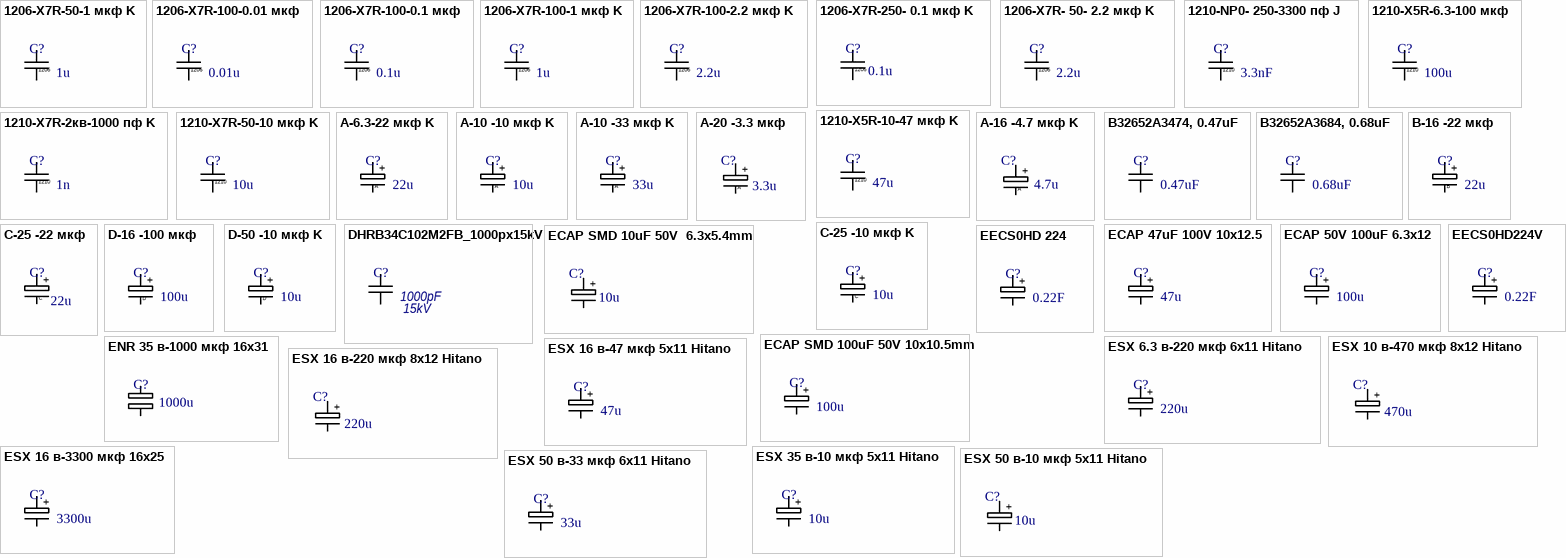
[diagram p3: symbols 1206-X7R-50-1 мкф K to ESX 50 в-33 мкф 6x11 Hitano]

## 1206-X7R-50-1 мкф K
designator C?  Cap: 1u  Foot: 1206  (hidden comment: 1206-X7R-50-1 мкф K)
Конденсатор Чип Керамический; Voltage: 50V
footprint CAP_1206 (Chip Capacitor, 2-Leads, Body 3,20x1,60mm, IPC Medium Density)
pins: 1, 2

## 1206-X7R-100-0.01 мкф
designator C?  Cap: 0.01u  Foot: 1206  (hidden comment: 1206-X7R-100-0.01 мкф)
Конденсатор Чип Керамический; Voltage: 100V
footprint CAP_1206 (Chip Capacitor, 2-Leads, Body 3,20x1,60mm, IPC Medium Density)
pins: 1, 2

## 1206-X7R-100-0.1 мкф
designator C?  Cap: 0.1u  Foot: 1206  (hidden comment: 1206-X7R-100-0.1 мкф)
Конденсатор Чип Керамический; Voltage: 100V
footprint CAP_1206 (Chip Capacitor, 2-Leads, Body 3,20x1,60mm, IPC Medium Density)
pins: 1, 2

## 1206-X7R-100-1 мкф K
designator C?  Cap: 1u  Foot: 1206  (hidden comment: 1206-X7R-100-1 мкф K)
Конденсатор Чип Керамический; Voltage: 100V
footprint CAP_1206 (Chip Capacitor, 2-Leads, Body 3,20x1,60mm, IPC Medium Density)
pins: 1, 2

## 1206-X7R-100-2.2 мкф K
designator C?  Cap: 2.2u  Foot: 1206  (hidden comment: 1206-X7R-100-2.2 мкф K)
Конденсатор Чип Керамический; Voltage: 100V
footprint CAP_1206 (Chip Capacitor, 2-Leads, Body 3,20x1,60mm, IPC Medium Density)
pins: 1, 2

## 1206-X7R-250- 0.1 мкф K
designator C?  Cap: 0.1u  Foot: 1206  (hidden comment: 1206-X7R-250- 0.1 мкф K)
Конденсатор Чип Керамический; Voltage: 250V
footprint CAP_1206 (Chip Capacitor, 2-Leads, Body 3,20x1,60mm, IPC Medium Density)
pins: 1, 2

## 1206-X7R- 50- 2.2 мкф K
designator C?  Cap: 2.2u  Foot: 1206  (hidden comment: 1206-X7R- 50- 2.2 мкф K)
Конденсатор Чип Керамический; Voltage: 50V
footprint CAP_1206 (Chip Capacitor, 2-Leads, Body 3,20x1,60mm, IPC Medium Density)
pins: 1, 2

## 1210-NP0- 250-3300 пф J
designator C?  Cap: 3.3nF  Foot: 1210  (hidden comment: 1210-NP0- 250-3300 пф J)
Конденсатор Чип Керамический; Voltage: 250V
footprint CAP_1210 (Chip Capacitor, Body 3.2x2.5mm, EIA 1210, IPC Medium Density)
pins: 1, 2

## 1210-X5R-6.3-100 мкф
designator C?  Cap: 100u  Foot: 1210  (hidden comment: 1210-X5R-6.3-100 мкф)
Конденсатор Чип Керамический; Voltage: 6.3V
footprint CAP_1210 (Chip Capacitor, Body 3.2x2.5mm, EIA 1210, IPC Medium Density)
pins: 1, 2

## 1210-X5R-10-47 мкф K
designator C?  Cap: 47u  Foot: 1210  (hidden comment: 1210-X5R-10-47 мкф K)
Конденсатор Чип Керамический; Voltage: 10V
footprint CAP_1210 (Chip Capacitor, Body 3.2x2.5mm, EIA 1210, IPC Medium Density)
pins: 1, 2

## 1210-X7R-2кв-1000 пф K
designator C?  Cap: 1n  Foot: 1210  (hidden comment: 1210-X7R-2кв-1000 пф K)
Конденсатор Чип Керамический; Voltage: 2kV
footprint CAP_1210 (Chip Capacitor, Body 3.2x2.5mm, EIA 1210, IPC Medium Density)
pins: 1, 2

## 1210-X7R-50-10 мкф K
designator C?  Cap: 10u  Foot: 1210  (hidden comment: 1210-X7R-50-10 мкф K)
Конденсатор Чип Керамический; Voltage: 50V
footprint CAP_1210 (Chip Capacitor, Body 3.2x2.5mm, EIA 1210, IPC Medium Density)
pins: 1, 2

## A-6.3-22 мкф K
designator C?  Cap: 22u  Foot: A  (hidden comment: A-6.3-22 мкф K)
Конденсатор Чип Танталовый; Voltage: 6.3V
footprint CAP_Tantal_A
pins: 1, 2
text: +

## A-10 -10 мкф K
designator C?  Cap: 10u  Foot: A  (hidden comment: A-10 -10 мкф K)
Конденсатор Чип Танталовый; Voltage: 10V
footprint CAP_Tantal_A
pins: 1, 2
text: +

## A-10 -33 мкф K
designator C?  Cap: 33u  Foot: A  (hidden comment: A-10 -33 мкф K)
Конденсатор Чип Танталовый; Voltage: 10V
footprint CAP_Tantal_A
pins: 1, 2
text: +

## A-16 -4.7 мкф K
designator C?  Cap: 4.7u  Foot: A  (hidden comment: A-16 -4.7 мкф K)
Конденсатор Чип Танталовый; Voltage: 16V
footprint CAP_Tantal_A
pins: 1, 2
text: +

## A-20 -3.3 мкф
designator C?  Cap: 3.3u  Foot: A  (hidden comment: A-20 -3.3 мкф)
Конденсатор Чип Танталовый; Voltage: 20V
footprint CAP_Tantal_A
pins: 1, 2
text: +

## B32652A3474, 0.47uF
designator C?, comment Cap: 0.47uF  (hidden comment: B32652A3474, Epcos)
Конденсатор Выводной Плёночный; Voltage: 250V; Distributors: B32652 -250в-0.47 мкф J Epcos, Симметрон
footprint CAP_MKP_B32652(Epcos)_18X8.5X14.5
pins: 1, 2

## B32652A3684, 0.68uF
designator C?, comment Cap: 0.68uF  (hidden comment: B32652A3684, Epcos)
Конденсатор Выводной Плёночный; Voltage: 250V; Distributors: B32652 -250в-0.68 мкф J Epcos, Симметрон; B32652-A3684-J, конденсатор 250Vdc 5% 0.68 мкФ, http://www.nt-moscow.ru/
footprint CAP_MKP_B32652(Epcos)_18X8.5X14.5
pins: 1, 2

## B-16 -22 мкф
designator C?  Cap: 22u  Foot: B  (hidden comment: B-16 -22 мкф)
Конденсатор Чип Танталовый; Voltage: 16V
footprint CAP_TANTAL_B
pins: 1, 2
text: +

## C-25 -10 мкф K
designator C?  Cap: 10u  Foot: C  (hidden comment: C-25 -10 мкф K)
Конденсатор Чип Танталовый; Voltage: 25V
footprint CAP_Tantal_C
pins: 1, 2
text: +

## C-25 -22 мкф
designator C?  Cap: 22u  Foot: C  (hidden comment: C-25 -22 мкф)
Конденсатор Чип Танталовый; Voltage: 25V
footprint CAP_Tantal_C
pins: 1, 2
text: +

## D-16 -100 мкф
designator C?  Cap: 100u  Foot: D  (hidden comment: D-16 -100 мкф)
Конденсатор Чип Танталовый; Voltage: 16V
footprint CAP_Tantal_D/E
pins: 1, 2
text: +

## D-50 -10 мкф K
designator C?, comment Cap: 10u  Foot: D  (hidden comment: D-50 -10 мкф K Vishay)
Конденсатор Чип Танталовый; Voltage: 50V
footprint CAP_Tantal_D/E
pins: 1, 2
text: +

## DHRB34C102M2FB_1000px15kV
designator C?, comment Voltage: 15kV  Cap: 1000pF  (hidden comment: DHRB34C102M2FB, Murata)
Конденсатор керамический дисковый высоковольтный
footprint CAP_D18xF12,7xT8,2
pins: 1, 2

## ECAP 47uF 100V 10x12.5
designator C?  Cap: 47u  (hidden comment: ECAP 47uF 100V 10x12.5)
Analog: EXR 16 в-3300 мкф 16x26; Voltage: 100V
footprint CAP_ECR 10X12.5 RA
footprint CAP_ECR 10X12.5
pins: 1, 2
text: +

## ECAP 50V 100uF 6.3x12
designator C?, comment Cap: 100u  (hidden comment: ECAP (К50-35), 100мкФ, 35В, 105°C, 20%, 6.3x12мм P:2.5мм)
Конденсатор электролитический алюминиевый; Voltage: 50V
footprint CAP_ECR 5X11
pins: 1, 2
text: +

## ECAP SMD 10uF 50V  6.3x5.4mm
designator C?, comment Cap: 10u  (hidden comment: ECAP SMD, 10 мкФ, 50 В, 105°C, 20% 6.3x5.4мм)
Конденсатор электролитический алюминиевый SMD; Voltage: 50V; Analog: EXR 50 в-10 мкф 5x11 Hitano
footprint CAP_AE_SIZECODE_9G (Aluminum Electrolytic Capacitor, Body 6,60x6,60x5,40mm)
pins: 1, 2
text: +

## ECAP SMD 100uF 50V 10x10.5mm
designator C?, comment Cap: 100u  (hidden comment: ECAP SMD, 100 мкФ, 50 В, 105°C, 20% 10x10.5мм)
Конденсатор электролитический алюминиевый SMD; Voltage: 50V; Analog: ECAP SMD 100uF 50V 10x10.5mm; URL: https://www.chipdip.ru/product0/9000565738
footprint CAP_ALUM_10.3MM (Aluminum Electrolytic Capacitor, Body 10.30x10.30x10.50mm, IPC Low Density)
pins: 1, 2
text: +

## EECS0HD224V
designator C?  Cap: 0.22F  (hidden comment: EECS0HD224V)
Ионистор; Voltage: 5.5V
footprint CAP_SD_10.5x6_V
pins: 1, 2
text: +

## EECS0HD 224
designator C?  Cap: 0.22F  (hidden comment: EECS0HD 224)
Ионистор; Voltage: 5.5V
footprint CAP_SD_10.5x6_V
pins: 1, 2
text: +

## ENR 35 в-1000 мкф 16x31
designator C?, comment Cap: 1000u  (hidden comment: ENR 35 в-1000 мкф 16x31 Hitano)
Конденсатор Алюминиевый Низкоимпедансный; Voltage: 35V; Analog: ESX 63 в-1000 мкф 16x36 Hitano
footprint CAP_ECR 16X32
pins: 1, 2

## ESX 6.3 в-220 мкф 6x11 Hitano
designator C?, comment Cap: 220u  (hidden comment: ESX 6.3 в-220 мкф 6x11, Hitano)
Конденсатор Алюминиевый Низкоимпедансный; Voltage: 6.3V; Analog: EXR 6.3 в-220 мкф 6x1, Hitano
footprint CAP_ECR 6X11
pins: 1, 2
text: +

## ESX 10 в-470 мкф 8x12 Hitano
designator C?  Cap: 470u  (hidden comment: ESX 10 в-470 мкф 8x12 Hitano)
Конденсатор Алюминиевый Низкоимпедансный; Voltage: 10V
footprint CAP_ECR 8X12
pins: 1, 2
text: +

## ESX 16 в-47 мкф 5x11 Hitano
designator C?  Cap: 47u  (hidden comment: ESX 16 в-47 мкф 5x11 Hitano)
Конденсатор Алюминиевый Низкоимпедансный; Voltage: 16V; Analog: EXR 16 в-47 мкф 5x11 Hitano
footprint CAP_ECR 5X11
pins: 1, 2
text: +

## ESX 16 в-220 мкф 8x12 Hitano
designator C?  Cap: 220u  (hidden comment: ESX 16 в-220 мкф 8x12 Hitano)
Конденсатор Алюминиевый Низкоимпедансный; Voltage: 16V; Analog: ESX 6.3 в-470 мкф 8x12
footprint CAP_ECR 8X12
pins: 1, 2
text: +

## ESX 16 в-3300 мкф 16x25
designator C?  Cap: 3300u  (hidden comment: ESX 16 в-3300 мкф 16x25)
Конденсатор Алюминиевый Низкоимпедансный; Voltage: 16V; Analog: EXR 16 в-3300 мкф 16x26
footprint CAP_ECR 16X32
pins: 1, 2
text: +

## ESX 35 в-10 мкф 5x11 Hitano
designator C?  Cap: 10u  (hidden comment: ESX 35 в-10 мкф 5x11 Hitano)
Конденсатор Алюминиевый Низкоимпедансный; Voltage: 35V; Analog: EXR 35 в-10 мкф 5x11 Hitano
footprint CAP_ECR 5X11
pins: 1, 2
text: +

## ESX 50 в-10 мкф 5x11 Hitano
designator C?  Cap: 10u  (hidden comment: ESX 50 в-10 мкф 5x11 Hitano)
Конденсатор Алюминиевый Низкоимпедансный; Voltage: 50V; Analog: EXR 50 в-10 мкф 5x11 Hitano
footprint CAP_ECR 5X11
pins: 1, 2
text: +

## ESX 50 в-33 мкф 6x11 Hitano
designator C?  Cap: 33u  (hidden comment: ESX 50 в-33 мкф 6x11 Hitano)
Конденсатор Алюминиевый Низкоимпедансный; Voltage: 50V; Analog: EXR 50 в-33 мкф 6x11 Hitano
footprint CAP_ECR 6X11
pins: 1, 2
text: +

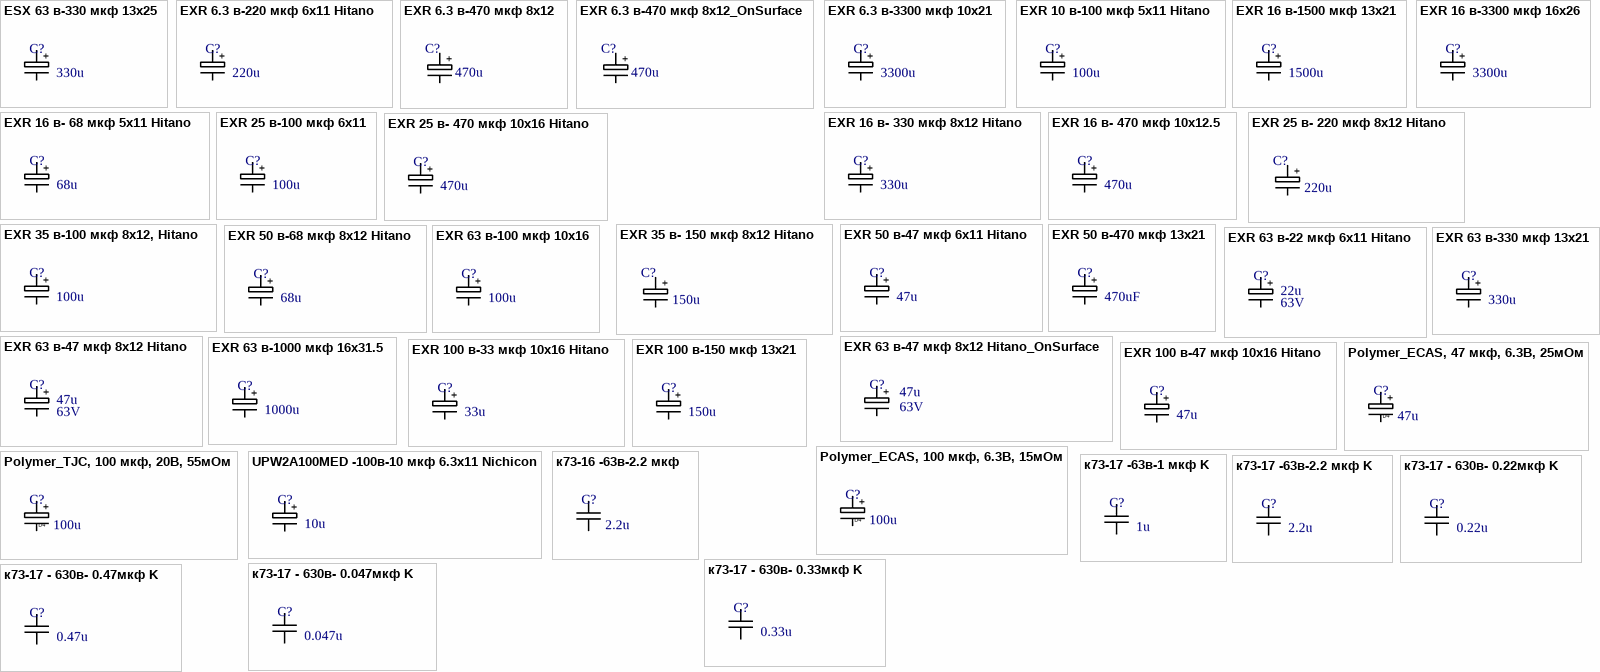
[diagram p4: symbols ESX 63 в-330 мкф 13x25 to к73-17 - 630в- 0.47мкф K]

## ESX 63 в-330 мкф 13x25
designator C?  Cap: 330u  (hidden comment: ESX 63 в-330 мкф 13x25)
Конденсатор Алюминиевый Низкоимпедансный; Voltage: 63V; Analog: EXR 63 в-330 мкф 13x21
footprint CAP_ECR 13x21
pins: 1, 2
text: +

## EXR 6.3 в-220 мкф 6x11 Hitano
designator C?  Cap: 220u  (hidden comment: EXR 6.3 в-220 мкф 6x11 Hitano)
Конденсатор Алюминиевый Низкоимпедансный; Voltage: 6.3V
footprint CAP_ECR 6X11
pins: 1, 2
text: +

## EXR 6.3 в-470 мкф 8x12
designator C?  Cap: 470u  (hidden comment: EXR 6.3 в-470 мкф 8x12)
Конденсатор Алюминиевый Низкоимпедансный; Voltage: 6.3V; Analog: ESX 6.3 в-470 мкф 8x12
footprint CAP_ECR 8X12
pins: 1, 2
text: +

## EXR 6.3 в-470 мкф 8x12_OnSurface
designator C?  Cap: 470u  (hidden comment: EXR 6.3 в-470 мкф 8x12_OnSurface)
Конденсатор Алюминиевый Низкоимпедансный; Voltage: 6.3V; Analog: ESX 6.3 в-470 мкф 8x12
footprint CAP_ECR 8X12_surface
pins: 1, 2
text: +

## EXR 6.3 в-3300 мкф 10x21
designator C?  Cap: 3300u  (hidden comment: EXR 6.3 в-3300 мкф 10x21)
Конденсатор Алюминиевый Низкоимпедансный; Voltage: 6.3V
footprint CAP_ECR 10X21
pins: 1, 2
text: +

## EXR 10 в-100 мкф 5x11 Hitano
designator C?  Cap: 100u  (hidden comment: EXR 10 в-100 мкф 5x11 Hitano)
Конденсатор Алюминиевый Низкоимпедансный; Voltage: 10V; Analog: ESX 10 в-100 мкф 5x11 Hitano
footprint CAP_ECR 5X11
pins: 1, 2
text: +

## EXR 16 в-1500 мкф 13x21
designator C?  Cap: 1500u  (hidden comment: EXR 16 в-1500 мкф 13x21)
Конденсатор Алюминиевый Низкоимпедансный; Voltage: 6.3V; Price, $: 0.17
footprint CAP_ECR 13X21
pins: 1, 2
text: +

## EXR 16 в-3300 мкф 16x26
designator C?  Cap: 3300u  (hidden comment: EXR 16 в-3300 мкф 16x26)
Конденсатор Алюминиевый Низкоимпедансный; Voltage: 16V; Analog: ESX 16 в-3300 мкф 16x25
footprint CAP_ECR 16X32
pins: 1, 2
text: +

## EXR 16 в- 68 мкф 5x11 Hitano
designator C?  Cap: 68u  (hidden comment: EXR 16 в- 68 мкф 5x11 Hitano)
Конденсатор Алюминиевый Низкоимпедансный; Voltage: 16V; Analog: ESX 16 в- 68 мкф 5x11
footprint CAP_ECR 5X11
pins: 1, 2
text: +

## EXR 16 в- 330 мкф 8x12 Hitano
designator C?  Cap: 330u  (hidden comment: EXR 16 в- 330 мкф 8x12 Hitano)
Конденсатор Алюминиевый Низкоимпедансный; Voltage: 16V; Analog: ESX 16 в- 330 мкф 8x12 Hitano
footprint CAP_ECR 8X12
pins: 1, 2
text: +

## EXR 16 в- 470 мкф 10x12.5
designator C?, comment Cap: 470u  (hidden comment: EXR 16 в- 470 мкф 10x12.5 Hitano)
Конденсатор Алюминиевый Низкоимпедансный; Voltage: 16V; Analog: ESX 16 в- 470 мкф 10x13 Hitano
footprint CAP_ECR 10X13
pins: 1, 2
text: +

## EXR 25 в-100 мкф 6x11
designator C?  Cap: 100u  (hidden comment: EXR 25 в-100 мкф 6x11)
Конденсатор Алюминиевый Низкоимпедансный; Voltage: 25V; Analog: EXR 16 в-3300 мкф 16x26
footprint CAP_ECR 6X11
pins: 1, 2
text: +

## EXR 25 в- 220 мкф 8x12 Hitano
designator C?  Cap: 220u  (hidden comment: EXR 25 в- 220 мкф 8x12 Hitano)
Конденсатор Алюминиевый Низкоимпедансный; Voltage: 25V; Analog: ESX 25 в- 220 мкф 8x12 Hitano; Price, $: 0.1
footprint CAP_ECR 8X12
pins: 1, 2
text: +

## EXR 25 в- 470 мкф 10x16 Hitano
designator C?  Cap: 470u  (hidden comment: EXR 25 в- 470 мкф 10x16 Hitano)
Конденсатор Алюминиевый Низкоимпедансный; Voltage: 25V; Analog: ESX 25 в- 470 мкф 10x16 Hitano; Price, $: 0.1
footprint CAP_ECR 10X13
pins: 1, 2
text: +

## EXR 35 в-100 мкф 8x12, Hitano
designator C?  Cap: 100u  (hidden comment: EXR 35 в-100 мкф 8x12, Hitano)
Конденсатор Алюминиевый Низкоимпедансный; Voltage: 35V; Analog: ESX 35 в-100 мкф 8x12
footprint CAP_ECR 8X12
pins: 1, 2
text: +

## EXR 35 в- 150 мкф 8x12 Hitano
designator C?  Cap: 150u  (hidden comment: EXR 35 в- 150 мкф 8x12 Hitano)
Конденсатор Алюминиевый Низкоимпедансный; Voltage: 35V; Analog: ESX 35 в- 150 мкф 8x12 Hitano; Price, $: 0.1
footprint CAP_ECR 8X12
pins: 1, 2
text: +

## EXR 50 в-47 мкф 6x11 Hitano
designator C?  Cap: 47u  (hidden comment: EXR 50 в-47 мкф 6x11 Hitano)
Конденсатор Алюминиевый Низкоимпедансный; Voltage: 50V
footprint CAP_ECR 6X11
pins: 1, 2
text: +

## EXR 50 в-68 мкф 8x12 Hitano
designator C?  Cap: 68u  (hidden comment: EXR 50 в-68 мкф 8x12 Hitano)
Конденсатор Алюминиевый Низкоимпедансный; Voltage: 50V
footprint CAP_ECR 8X12
pins: 1, 2
text: +

## EXR 50 в-470 мкф 13x21
designator C?  Cap: 470uF  (hidden comment: EXR 50 в-470 мкф 13x21)
Конденсатор Алюминиевый Низкоимпедансный; Voltage: 50V
footprint CAP_ECR 13X21
pins: 1, 2
text: +

## EXR 63 в-22 мкф 6x11 Hitano
designator C?  Voltage: 63V  Cap: 22u  (hidden comment: EXR 63 в-22 мкф 6x11 Hitano)
Конденсатор Алюминиевый Низкоимпедансный
footprint CAP_ECR 6x11
pins: 1, 2
text: +

## EXR 63 в-47 мкф 8x12 Hitano
designator C?  Voltage: 63V  Cap: 47u  (hidden comment: EXR 63 в-47 мкф 8x12 Hitano)
Конденсатор Алюминиевый Низкоимпедансный; Analog: ESX 63 в-47 мкф 8x12 Hitano
footprint CAP_ECR 8X12
pins: 1, 2
text: +

## EXR 63 в-47 мкф 8x12 Hitano_OnSurface
designator C?  Voltage: 63V  Cap: 47u  (hidden comment: EXR 63 в-47 мкф 8x12 Hitano_OnSurface)
Конденсатор Алюминиевый Низкоимпедансный; Analog: ESX 63 в-47 мкф 8x12 Hitano
footprint CAP_ECR 8X12_surface
pins: 1, 2
text: +

## EXR 63 в-100 мкф 10x16
designator C?  Cap: 100u  (hidden comment: EXR 63 в-100 мкф 10x16)
Конденсатор Алюминиевый Низкоимпедансный; Voltage: 63V; Analog: ESX 63 в-100 мкф 10x16 Hitano
footprint CAP_ECR 10X13
pins: 1, 2
text: +

## EXR 63 в-330 мкф 13x21
designator C?  Cap: 330u  (hidden comment: EXR 63 в-330 мкф 13x21)
Конденсатор Алюминиевый Низкоимпедансный; Voltage: 63V
footprint CAP_ECR 13x21
pins: 1, 2
text: +

## EXR 63 в-1000 мкф 16x31.5
designator C?, comment Cap: 1000u  (hidden comment: EXR 63 в-1000 мкф 16x31.5 Hitano)
Конденсатор Алюминиевый Низкоимпедансный; Voltage: 63V; Analog: ESX 63 в-1000 мкф 16x36 Hitano
footprint CAP_ECR 16X32
pins: 1, 2
text: +

## EXR 100 в-33 мкф 10x16 Hitano
designator C?  Cap: 33u  (hidden comment: EXR 100 в-33 мкф 10x16 Hitano)
Конденсатор Алюминиевый Низкоимпедансный; Voltage: 100V; Analog: ESX 100 в-33 мкф, Hitano
footprint CAP_ECR 10X13
pins: 1, 2
text: +

## EXR 100 в-47 мкф 10x16 Hitano
designator C?  Cap: 47u  (hidden comment: EXR 100 в-47 мкф 10x16 Hitano)
Конденсатор Алюминиевый Низкоимпедансный; Voltage: 100V
footprint CAP_ECR 10X13
pins: 1, 2
text: +

## EXR 100 в-150 мкф 13x21
designator C?  Cap: 150u  (hidden comment: EXR 100 в-150 мкф 13x21)
Конденсатор Алюминиевый Низкоимпедансный; Voltage: 100V; Analog: ESX 100 в-150 мкф 13x21
footprint CAP_ECR 13X21
pins: 1, 2
text: +

## Polymer_ECAS, 47 мкф, 6.3В, 25мОм
designator C?, comment Cap: 47u  Foot: D4  (hidden comment: ECASD40J476M025K00, Murata, 47 мкф 20% 6.3В 7343(1.9t) 25мОм)
Конденсатор Чип Полимерный; Voltage: 6.3V; ESR: 25mOhm
footprint CAP_Poly_SMD_ECAS_D4
pins: 1, 2
text: +

## Polymer_ECAS, 100 мкф, 6.3В, 15мОм
designator C?, comment Cap: 100u  Foot: D4  (hidden comment: ECASD40J107M015K00, Murata, 100 мкф 20% 6.3В 7343(1.9t) 15мОм)
Конденсатор Чип Полимерный; Voltage: 6.3V; ESR: 15mOhm
footprint CAP_Poly_SMD_ECAS_D4
pins: 1, 2
text: +

## Polymer_TJC, 100 мкф, 20В, 55мОм
designator C?, comment Cap: 100u  Foot: D4  (hidden comment: TCJY107M020R0055, AVX)
Конденсатор Чип Полимерный; Voltage: 20V; ESR: 55mOhm; HelpURL: L:\Dev\Техническая документация\Пассивные компоненты\Конденсаторы\Полимерные\AVX\TCJ_series.pdf
footprint CAP_Poly_SMD_TJC_Y
pins: 1, 2
text: +

## UPW2A100MED -100в-10 мкф 6.3х11 Nichicon
designator C?  Cap: 10u  (hidden comment: UPW2A100MED -100в-10 мкф 6.3х11 Nichicon)
Конденсатор Алюминиевый Низкоимпедансный; Voltage: 100V; Analog: EXR 100 в-10 мкф 6.3x11 Hitano
footprint CAP_ECR 6X11
pins: 1, 2
text: +

## к73-16 -63в-2.2 мкф
designator C?  Cap: 2.2u  (hidden comment: к73-16 -63в-2.2 мкф)
Конденсатор Плёночный; Voltage: 63V; HelpURL: L:\Dev\Техническая документация\Пассивные компоненты\Конденсаторы\Металлоплёночные\
footprint CAP_K73-16_23x7x13
pins: 1, 2

## к73-17 -63в-1 мкф K
designator C?  Cap: 1u  (hidden comment: к73-17 -63в-1 мкф K)
Конденсатор Плёночный; Voltage: 63V; HelpURL: L:\Dev\Техническая документация\Пассивные компоненты\Конденсаторы\Металлоплёночные\k73-17_kuzcon.pdf; ComponentLink1Description: Datasheet_Giricond; ComponentLink1URL: L:\Dev\Техническая документация\Пассивные компоненты\Конденсаторы\Металлоплёночные\k73-17.pdf.pdf
footprint CAP_K73-17_18X8.5X16
pins: 1, 2

## к73-17 -63в-2.2 мкф K
designator C?  Cap: 2.2u  (hidden comment: к73-17 -63в-2.2 мкф K)
Конденсатор Плёночный; Voltage: 63V; HelpURL: L:\Dev\Техническая документация\Пассивные компоненты\Конденсаторы\Металлоплёночные\k73-17_kuzcon.pdf; ComponentLink1URL: L:\Dev\Техническая документация\Пассивные компоненты\Конденсаторы\Металлоплёночные\k73-17.pdf.pdf; ComponentLink1Description: Datasheet_Giricond
footprint CAP_K73-17_23x8.2x19
pins: 1, 2

## к73-17 - 630в- 0.22мкф K
designator C?  Cap: 0.22u  (hidden comment: к73-17 - 630в- 0.22мкф K)
Конденсатор Плёночный; Voltage: 630V; HelpURL: L:\Dev\Техническая документация\Пассивные компоненты\Конденсаторы\Металлоплёночные\k73-17_kuzcon.pdf; ComponentLink1Description: Datasheet_Giricond; ComponentLink1URL: L:\Dev\Техническая документация\Пассивные компоненты\Конденсаторы\Металлоплёночные\k73-17.pdf.pdf; Price, $: 0.2
footprint CAP_K73-17_23x10.5x21
pins: 1, 2

## к73-17 - 630в- 0.33мкф K
designator C?  Cap: 0.33u  (hidden comment: к73-17 - 630в- 0.33мкф K)
Конденсатор Плёночный; Voltage: 630V; HelpURL: L:\Dev\Техническая документация\Пассивные компоненты\Конденсаторы\Металлоплёночные\k73-17_kuzcon.pdf; ComponentLink1Description: Datasheet_Giricond; ComponentLink1URL: L:\Dev\Техническая документация\Пассивные компоненты\Конденсаторы\Металлоплёночные\k73-17.pdf
footprint CAP_K73-17_25x11.5x24 (Footprint not found)
pins: 1, 2

## к73-17 - 630в- 0.047мкф K
designator C?  Cap: 0.047u  (hidden comment: к73-17 - 630в- 0.047мкф K)
Конденсатор Плёночный; Voltage: 630V; HelpURL: L:\Dev\Техническая документация\Пассивные компоненты\Конденсаторы\Металлоплёночные\k73-17_kuzcon.pdf; ComponentLink1Description: Datasheet_Giricond; ComponentLink1URL: L:\Dev\Техническая документация\Пассивные компоненты\Конденсаторы\Металлоплёночные\k73-17.pdf.pdf; Price, $: 0.07
footprint CAP_K73-17_18X7X14
pins: 1, 2

## к73-17 - 630в- 0.47мкф K
designator C?  Cap: 0.47u  (hidden comment: к73-17 - 630в- 0.47мкф K)
Конденсатор Плёночный; Voltage: 630V; HelpURL: L:\Dev\Техническая документация\Пассивные компоненты\Конденсаторы\Металлоплёночные\k73-17_kuzcon.pdf; ComponentLink1Description: Datasheet_Giricond; ComponentLink1URL: L:\Dev\Техническая документация\Пассивные компоненты\Конденсаторы\Металлоплёночные\k73-17.pdf
footprint CAP_K73-17_25x15.5x25
pins: 1, 2